# Altium schematic symbol library battery_chargers.SchLib: 3 symbols
Pins are listed as number, name and electrical type; pins without a type are passive.

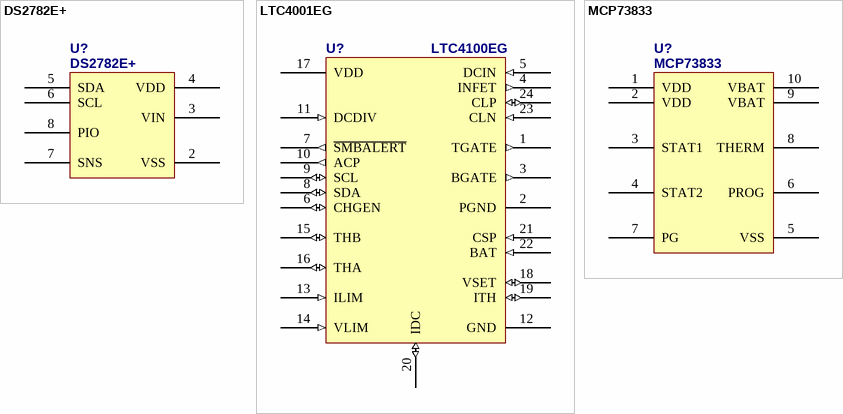
[diagram p0: symbols DS2782E+ to MCP73833]

## DS2782E+
designator U?
Stand-Alone Fuel Gauge IC
footprint TSSOP8 (Shrink Small Outline, Plastic, Thin; 8 Leads; Body Width 4.4 mm; Pitch 0.65 mm)
pins: 1 NC hidden, 2 VSS, 3 VIN, 4 VDD, 5 SDA, 6 SCL, 7 SNS, 8 PIO

## LTC4001EG
designator U?, comment LTC4100EG
Smart Battery Charger Controller; HelpURL: http://www.farnell.com/datasheets/1717081.pdf; Supplier: Farnell; Supplier_nr: 1273987
footprint SSOP24
pins: 1 TGATE (out), 2 PGND (power), 3 BGATE (out), 4 INFET (out), 5 DCIN (in), 6 CHGEN (io), 7 ~{SMBALERT} (out), 8 SDA (io), 9 SCL (io), 10 ACP (out), 11 DCDIV (in), 12 GND (power), 13 ILIM (in), 14 VLIM (in), 15 THB (io), 16 THA (io), 17 VDD (power), 18 VSET (io), 19 ITH (io), 20 IDC (io), 21 CSP (in), 22 BAT (in), 23 CLN (in), 24 CLP (io)

## MCP73833
designator U?
Stand-Alone Linear Li-Ion / Li-Polymer Charge  Management Controller
footprint MSOP10
pins: 1 VDD, 2 VDD, 3 STAT1, 4 STAT2, 5 VSS, 6 PROG, 7 PG, 8 THERM, 9 VBAT, 10 VBAT